# Altium schematic symbol library 未分类IC.SchLib: 39 symbols
Pins are listed as number, name and electrical type; pins without a type are passive.

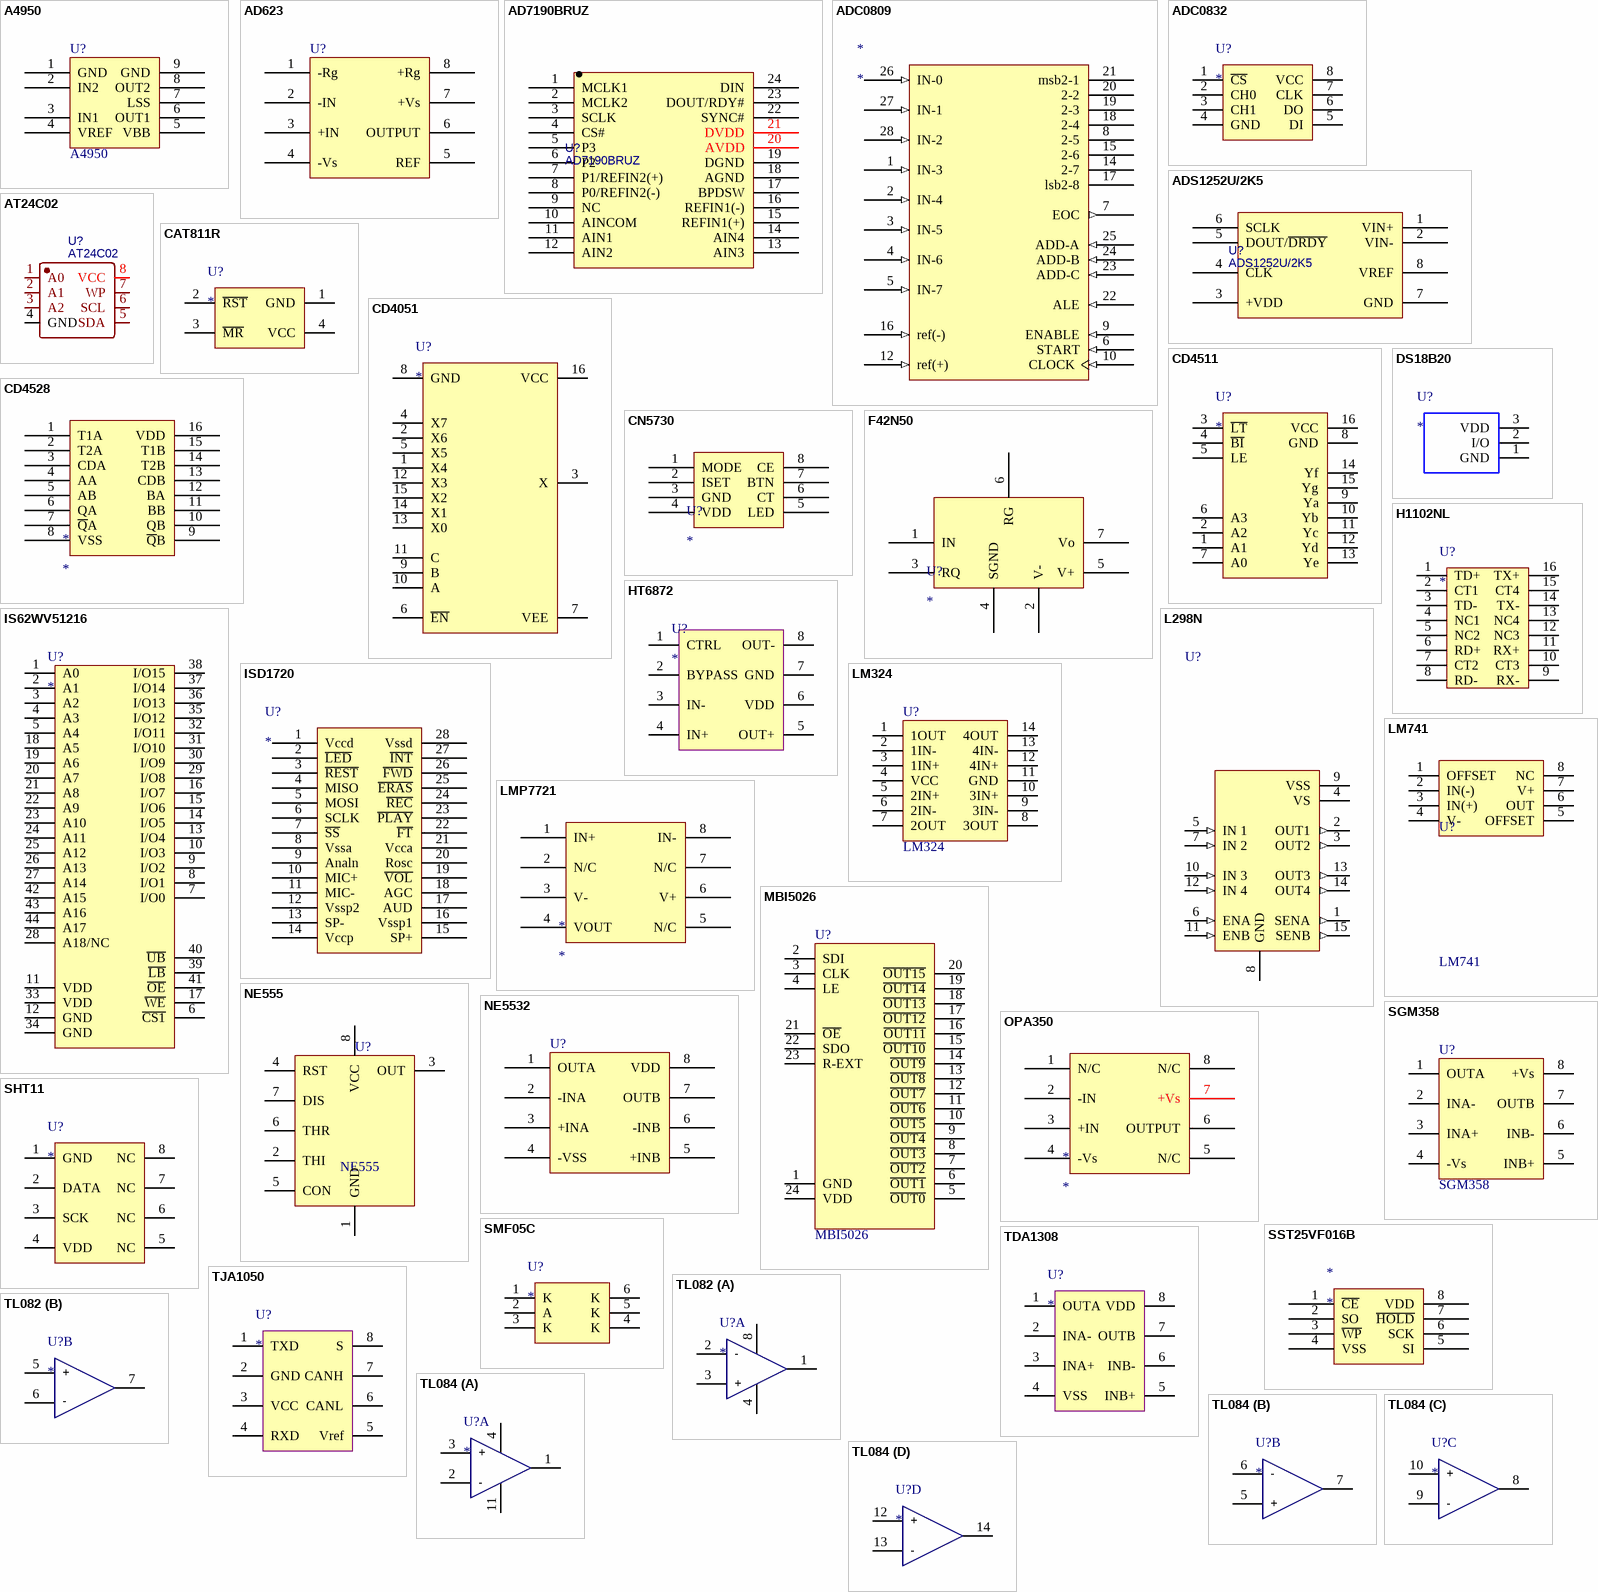
[diagram p0: symbols A4950 to TL084]

## A4950
designator U?
footprint SOP8-PAD
pins: 1 GND, 2 IN2, 3 IN1, 4 VREF, 5 VBB, 6 OUT1, 7 LSS, 8 OUT2, 9 GND

## AD623
designator U?
footprint SOP8
pins: 1 -Rg, 2 -IN, 3 +IN, 4 -Vs, 5 REF, 6 OUTPUT, 7 +Vs, 8 +Rg

## AD7190BRUZ
designator U?
BOM_Manufacturer: Analog Devices; Contributor: LCSC; BOM_Supplier: LCSC; BOM_Supplier Part: C578396; BOM_Manufacturer Part: AD7190BRUZ; BOM_JLCPCB Part Class: Extended Part; spicePre: U; spiceSymbolName: AD7190BRUZ
footprint TSSOP24
pins: 1 MCLK1, 2 MCLK2, 3 SCLK, 4 CS#, 5 P3, 6 P2, 7 P1/REFIN2(+), 8 P0/REFIN2(-), 9 NC, 10 AINCOM, 11 AIN1, 12 AIN2, 13 AIN3, 14 AIN4, 15 REFIN1(+), 16 REFIN1(-), 17 BPDSW, 18 AGND, 19 DGND, 20 AVDD, 21 DVDD, 22 SYNC#, 23 DOUT/RDY#, 24 DIN
text: .

## ADC0809
designator *
footprint DIP28
footprint DIP28_SS (DIP28-SMD Socket)
pins: 1 IN-3 (in), 2 IN-4 (in), 3 IN-5 (in), 4 IN-6 (in), 5 IN-7 (in), 6 START (in), 7 EOC (out), 8 2-5 (hiz), 9 ENABLE (in), 10 CLOCK (in), 12 ref(+) (in), 14 2-7 (hiz), 15 2-6 (hiz), 16 ref(-) (in), 17 lsb2-8 (hiz), 18 2-4 (hiz), 19 2-3 (hiz), 20 2-2 (hiz), 21 msb2-1 (hiz), 22 ALE (in), 23 ADD-C (in), 24 ADD-B (in), 25 ADD-A (in), 26 IN-0 (in), 27 IN-1 (in), 28 IN-2 (in)

## ADC0832
designator U?
footprint DIP8
footprint DIP8_SS (DIP8-SMD Socket)
pins: 1 ~{CS}, 2 CH0, 3 CH1, 4 GND, 5 DI, 6 DO, 7 CLK, 8 VCC

## ADS1252U/2K5
designator U?
BOM_Manufacturer: Texas Instruments; Contributor: LCSC; BOM_Supplier: LCSC; BOM_Supplier Part: C70912; BOM_Manufacturer Part: ADS1252U/2K5; BOM_JLCPCB Part Class: Extended Part; spicePre: U; spiceSymbolName: ADS1252U/2K5
footprint SOIC-8
pins: 1 VIN+, 2 VIN-, 3 +VDD, 4 CLK, 5 DOUT/~{DRDY}, 6 SCLK, 7 GND, 8 VREF

## AT24C02
designator U?
BOM_Manufacturer: IDCHIP; Contributor: LCSC; BOM_Supplier: LCSC; BOM_Supplier Part: C688857; BOM_Manufacturer Part: AT24C02; BOM_JLCPCB Part Class: Extended Part; spicePre: U; spiceSymbolName: AT24C02
footprint SOP8
footprint DIP8
pins: 1 A0, 2 A1, 3 A2, 4 GND, 5 SDA, 6 SCL, 7 WP, 8 VCC

## CAT811R
designator U?
footprint SOT143
pins: 1 GND, 2 ~{RST}, 3 ~{MR}, 4 VCC

## CD4051
designator U?
footprint DIP16_SS (DIP16-SMD Socket)
footprint DIP16
footprint SOP16
pins: 1 X4, 2 X6, 3 X, 4 X7, 5 X5, 6 ~{EN}, 7 VEE, 8 GND, 9 B, 10 A, 11 C, 12 X3, 13 X0, 14 X1, 15 X2, 16 VCC

## CD4511
designator U?
footprint DIP16
footprint DIP16_SS (DIP16-SMD Socket)
footprint SOP16
pins: 1 A1, 2 A2, 3 ~{LT}, 4 ~{BI}, 5 LE, 6 A3, 7 A0, 8 GND, 9 Ya, 10 Yb, 11 Yc, 12 Yd, 13 Ye, 14 Yf, 15 Yg, 16 VCC

## CD4528
designator *
pins: 1 T1A (oc), 2 T2A (oc), 3 CDA (oc), 4 AA (oc), 5 AB (oc), 6 QA (oc), 7 ~{Q}A (oc), 8 VSS (oc), 9 ~{Q}B (oc), 10 QB (oc), 11 BB (oc), 12 BA (oc), 13 CDB (oc), 14 T2B (oc), 15 T1B (oc), 16 VDD (oc)

## CN5730
designator U?
LED集成驱动电路
footprint SOP8
pins: 1 MODE, 2 ISET, 3 GND, 4 VDD, 5 LED, 6 CT, 7 BTN, 8 CE

## DS18B20
designator U?
pins: 1 GND, 2 I/O, 3 VDD

## F42N50
designator U?
footprint F42N50
pins: 1 IN, 2 V-, 3 RQ, 4 SGND, 5 V+, 6 RG, 7 Vo

## H1102NL
designator U?
pins: 1 TD+, 2 CT1, 3 TD-, 4 NC1, 5 NC2, 6 RD+, 7 CT2, 8 RD-, 9 RX-, 10 CT3, 11 RX+, 12 NC3, 13 NC4, 14 TX-, 15 CT4, 16 TX+

## HT6872
designator U?
footprint SOP8
pins: 1 CTRL, 2 BYPASS, 3 IN-, 4 IN+, 5 OUT+, 6 VDD, 7 GND, 8 OUT-

## IS62WV51216
designator U?
footprint TSOP44
pins: 1 A0, 2 A1, 3 A2, 4 A3, 5 A4, 6 ~{CS1}, 7 I/O0, 8 I/O1, 9 I/O2, 10 I/O3, 11 VDD, 12 GND, 13 I/O4, 14 I/O5, 15 I/O6, 16 I/O7, 17 ~{WE}, 18 A5, 19 A6, 20 A7, 21 A8, 22 A9, 23 A10, 24 A11, 25 A12, 26 A13, 27 A14, 28 A18/NC, 29 I/O8, 30 I/O9, 31 I/O10, 32 I/O11, 33 VDD, 34 GND, 35 I/O12, 36 I/O13, 37 I/O14, 38 I/O15, 39 ~{LB}, 40 ~{UB}, 41 ~{OE}, 42 A15, 43 A16, 44 A17

## ISD1720
designator U?
footprint DIP28
footprint DIP28_SS (DIP28-SMD Socket)
pins: 1 Vccd, 2 ~{LED}, 3 ~{REST}, 4 MISO, 5 MOSI, 6 SCLK, 7 ~{SS}, 8 Vssa, 9 Analn, 10 MIC+, 11 MIC-, 12 Vssp2, 13 SP-, 14 Vccp, 15 SP+, 16 Vssp1, 17 AUD, 18 AGC, 19 ~{VOL}, 20 Rosc, 21 Vcca, 22 ~{FT}, 23 ~{PLAY}, 24 ~{REC}, 25 ~{ERAS}, 26 ~{FWD}, 27 ~{INT}, 28 Vssd

## L298N
designator U?
MOTO DEVICE
footprint L298N
footprint L298N散热片
pins: 1 SENA (out), 2 OUT1 (out), 3 OUT2 (out), 4 VS (power), 5 IN 1 (in), 6 ENA (in), 7 IN 2 (in), 8 GND (power), 9 VSS (power), 10 IN 3 (in), 11 ENB (in), 12 IN 4 (in), 13 OUT3 (out), 14 OUT4 (out), 15 SENB (out)

## LM324
designator U?
footprint DIP14
footprint DIP14_SS (DIP14-SMD Socket)
footprint SOP14
pins: 1 1OUT, 2 1IN-, 3 1IN+, 4 VCC, 5 2IN+, 6 2IN-, 7 2OUT, 8 3OUT, 9 3IN-, 10 3IN+, 11 GND, 12 4IN+, 13 4IN-, 14 4OUT

## LM741
designator U?
footprint DIP8
pins: 1 OFFSET, 2 IN(-), 3 IN(+), 4 V-, 5 OFFSET, 6 OUT, 7 V+, 8 NC

## LMP7721
designator *
footprint SOIC-8
pins: 1 IN+, 2 N/C, 3 V-, 4 VOUT, 5 N/C, 6 V+, 7 N/C, 8 IN-

## MBI5026
designator U?
footprint SOP24
pins: 1 GND, 2 SDI, 3 CLK, 4 LE, 5 ~{OUT0}, 6 ~{OUT1}, 7 ~{OUT2}, 8 ~{OUT3}, 9 ~{OUT4}, 10 ~{OUT5}, 11 ~{OUT6}, 12 ~{OUT7}, 13 ~{OUT8}, 14 ~{OUT9}, 15 ~{OUT10}, 16 ~{OUT11}, 17 ~{OUT12}, 18 ~{OUT13}, 19 ~{OUT14}, 20 ~{OUT15}, 21 ~{OE}, 22 SDO, 23 R-EXT, 24 VDD

## NE555
designator U?
footprint DIP8
footprint DIP8_SS (DIP8-SMD Socket)
footprint SOP8
pins: 1 GND, 2 THI, 3 OUT, 4 RST, 5 CON, 6 THR, 7 DIS, 8 VCC

## NE5532
designator U?
footprint SOP8
pins: 1 OUTA, 2 -INA, 3 +INA, 4 -VSS, 5 +INB, 6 -INB, 7 OUTB, 8 VDD

## OPA350
designator *
footprint SOIC-8
pins: 1 N/C, 2 -IN, 3 +IN, 4 -Vs, 5 N/C, 6 OUTPUT, 7 +Vs, 8 N/C

## SGM358
designator U?
footprint SOP8 (5*6*1.8mm（长宽高）)
pins: 1 OUTA, 2 INA-, 3 INA+, 4 -Vs, 5 INB+, 6 INB-, 7 OUTB, 8 +Vs

## SHT11
designator U?
footprint SHT11
pins: 1 GND, 2 DATA, 3 SCK, 4 VDD, 5 NC, 6 NC, 7 NC, 8 NC

## SMF05C
designator U?
footprint SOT363
pins: 1 K, 2 A, 3 K, 4 K, 5 K, 6 K

## SST25VF016B
designator *
footprint SOP8_W
pins: 1 ~{CE}, 2 SO, 3 ~{WP}, 4 VSS, 5 SI, 6 SCK, 7 ~{HOLD}, 8 VDD

## TDA1308
designator U?
footprint SOP8
pins: 1 OUTA, 2 INA-, 3 INA+, 4 VSS, 5 INB+, 6 INB-, 7 OUTB, 8 VDD

## TJA1050
designator U?
footprint SOP8
pins: 1 TXD, 2 GND, 3 VCC, 4 RXD, 5 Vref, 6 CANL, 7 CANH, 8 S

## TL082
designator U?
footprint DIP8
footprint DIP8_SS (DIP8-SMD Socket)
footprint SOP8
part A pins: 1, 2, 3, 4 VCC-, 8 VCC+
part B pins: 5, 6, 7
part A text: -; +
part B text: +; -

## TL084
designator U?
footprint DIP14
footprint DIP14_SS (DIP14-SMD Socket)
footprint SOP14
part A pins: 1, 2, 3, 4 VCC+, 11 VCC-
part B pins: 5, 6, 7
part C pins: 8, 9, 10
part D pins: 12, 13, 14
part A text: +; -
part B text: -; +
part C text: +; -
part D text: +; -

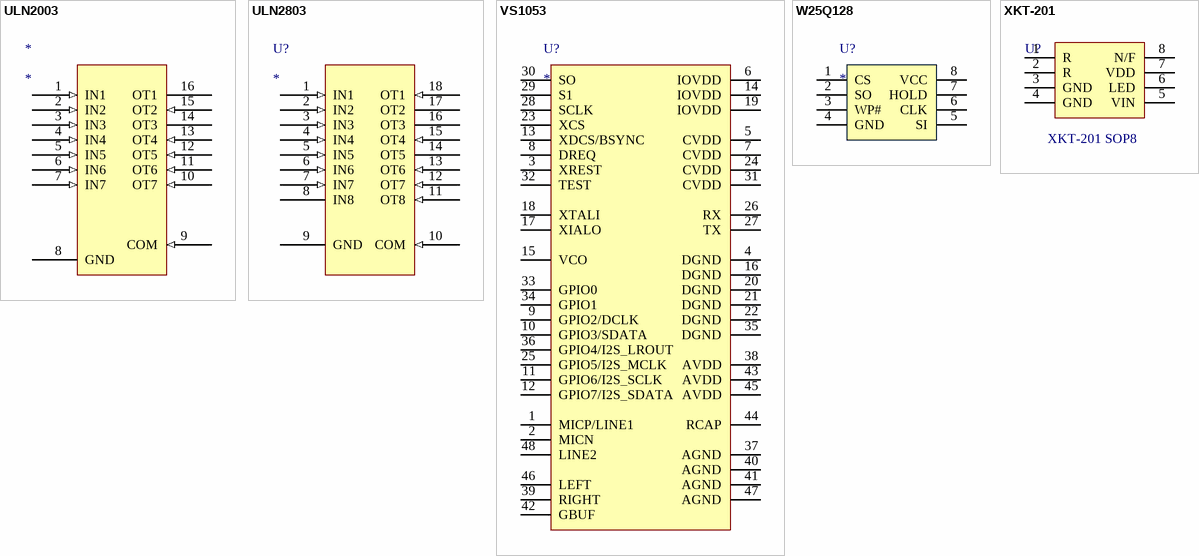
[diagram p1: symbols ULN2003 to XKT-201]

## ULN2003
designator *
footprint DIP16
footprint DIP16_SS (DIP16-SMD Socket)
footprint SOP16
pins: 1 IN1 (in), 2 IN2 (in), 3 IN3 (in), 4 IN4 (in), 5 IN5 (in), 6 IN6 (in), 7 IN7 (in), 8 GND (power), 9 COM (in), 10 OT7 (in), 11 OT6 (in), 12 OT5 (in), 13 OT4 (in), 14 OT3 (hiz), 15 OT2 (in), 16 OT1 (power)

## ULN2803
designator U?
footprint SOP18
footprint DIP18_SS (DIP18-SMD Socket)
pins: 1 IN1 (in), 2 IN2 (in), 3 IN3 (in), 4 IN4 (in), 5 IN5 (in), 6 IN6 (in), 7 IN7 (in), 8 IN8, 9 GND (power), 10 COM (in), 11 OT8 (in), 12 OT7 (in), 13 OT6 (in), 14 OT5 (hiz), 15 OT4 (in), 16 OT3 (power), 17 OT2, 18 OT1 (in)

## VS1053
designator U?
footprint TQFP48
pins: 1 MICP/LINE1, 2 MICN, 3 XREST, 4 DGND, 5 CVDD, 6 IOVDD, 7 CVDD, 8 DREQ, 9 GPIO2/DCLK, 10 GPIO3/SDATA, 11 GPIO6/I2S_SCLK, 12 GPIO7/I2S_SDATA, 13 XDCS/BSYNC, 14 IOVDD, 15 VCO, 16 DGND, 17 XIALO, 18 XTALI, 19 IOVDD, 20 DGND, 21 DGND, 22 DGND, 23 XCS, 24 CVDD, 25 GPIO5/I2S_MCLK, 26 RX, 27 TX, 28 SCLK, 29 S1, 30 SO, 31 CVDD, 32 TEST, 33 GPIO0, 34 GPIO1, 35 DGND, 36 GPIO4/I2S_LROUT, 37 AGND, 38 AVDD, 39 RIGHT, 40 AGND, 41 AGND, 42 GBUF, 43 AVDD, 44 RCAP, 45 AVDD, 46 LEFT, 47 AGND, 48 LINE2

## W25Q128
designator U?
footprint SOIC8
pins: 1 CS, 2 SO, 3 WP#, 4 GND, 5 SI, 6 CLK, 7 HOLD, 8 VCC

## XKT-201
designator U?, comment XKT-201 SOP8
5V加湿器驱动芯片
footprint SOP8
pins: 1 R, 2 R, 3 GND, 4 GND, 5 VIN, 6 LED, 7 VDD, 8 N/F